# Altium schematic symbol library BioSens.SchLib: 19 symbols
Pins are listed as number, name and electrical type; pins without a type are passive.

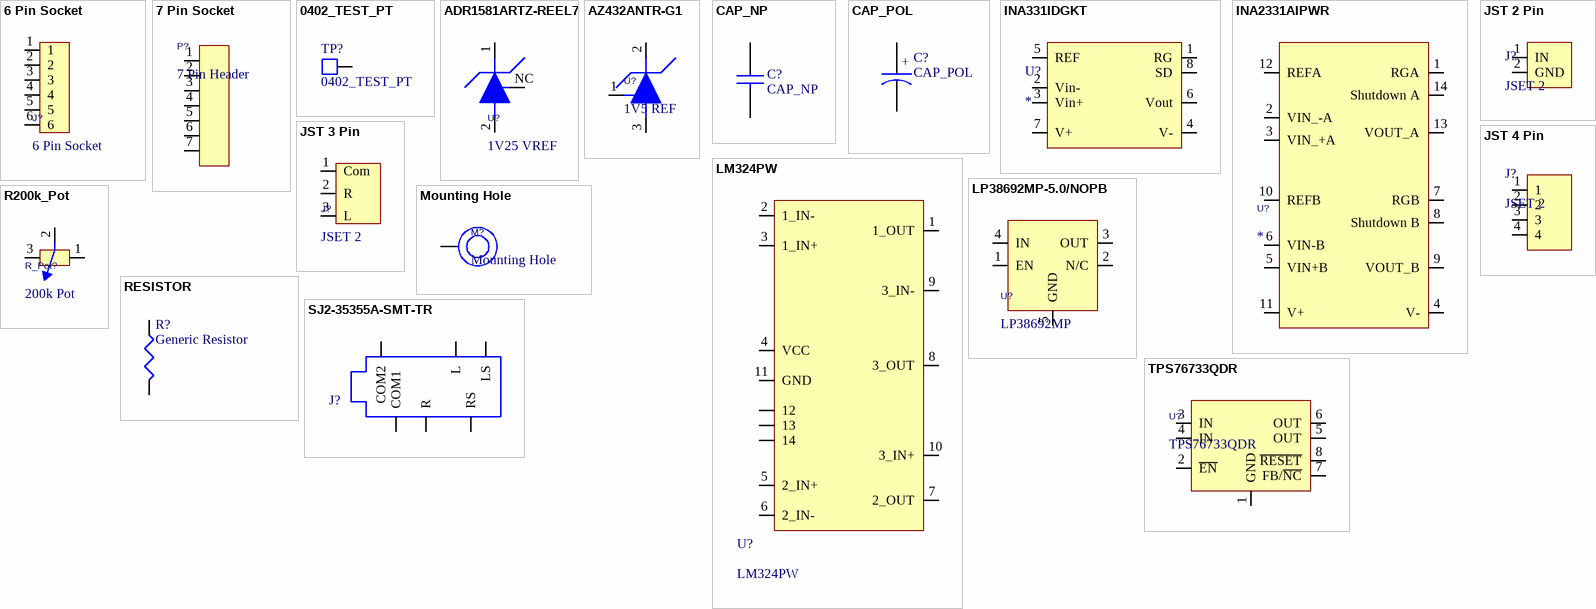
[diagram p0: symbols 6 Pin Socket to TPS76733QDR]

## 6 Pin Socket
designator J?
Headers for Signal to NRF
footprint 6 Pin Header (Biosignals output to NRF Digital IN)
pins: 1, 2, 3, 4, 5, 6

## 7 Pin Socket
designator P?, comment 7 Pin Header
KK 254 Wire-to-Board Header Single Row Vertical 7 Circuits PA Polyamide Nylon Tin (Sn) Plating; Manufacturer: Molex; Contact Resistance: 10mR; Max Current Rating: 4A; Voltage Rating: 250V; Number of Positions: 7; Gender: Male; Insulation Resistance: 50GR; Pitch: 2.54mm; Glow Wire Compliant: Non-compliant; Supplier 1: Digi-Key; Supplier Part Number 1: WM4005-ND; Manufacturer Part Number: 22-03-2071; RoHS: Yes; Category: Headers and Wire Housings; Stock 1: 11624; Pricing 1: 1=0.82000, 10=0.69600, 100=0.54110, 1000=0.42516, 5000=0.37362, 10000=0.34785 (USD); Mount: Through Hole; Contact Plating: Tin,Copper; Contact Material: Brass; Weight: 0.016932oz; Housing Color: White; Color: White; Housing Material: Nylon; Min Operating Temperature: 0°C; Max Operating Temperature: 75°C; Number of Rows: 1; Packaging: Bulk; Current Rating: 4A; Contact Gender: Male; Termination: Solder; Number of Contacts: 7; Max Voltage Rating (AC): 250V; Orientation: Straight; Voltage Rating (DC): 250V; Number of Circuits: 7; Series: KK® 4030; Contact Type: Male Pin; Length: 17.53mm; Height: 6.3mm; Contact Mating Length: 0.295inch; Depth: 2.34mm; Radiation Hardening: No; RoHS Compliant: Yes; REACH SVHC: Unknown; Halogen Free: Low Halogen; Lead Free: Lead Free; Flammability Rating: UL94 V-0; ComponentLink1URL: https://datasheet.ciiva.com/5147/0022032071-pcb-headers-158424-5147929.pdf?src-supplier=Mouser; ComponentLink1Description: https://datasheet.ciiva.com/5147/0022032071-pcb-headers-158424-5147929.pdf?src-supplier=Mouser; ComponentLink2URL: https://datasheet.ciiva.com/11747/0900766b80027332-11747589.pdf?src-supplier=RSComponents; ComponentLink2Description: https://datasheet.ciiva.com/11747/0900766b80027332-11747589.pdf?src-supplier=RSComponents; ComponentLink3URL: https://datasheet.ciiva.com/16656/0022032071-pcb-headers-16656194.pdf?src-supplier=Avnet+Europe; ComponentLink3Description: https://datasheet.ciiva.com/16656/0022032071-pcb-headers-16656194.pdf?src-supplier=Avnet+Europe; ComponentLink4URL: https://datasheet.ciiva.com/19461/878614-19461332.pdf?src-supplier=Jameco; ComponentLink4Description: https://datasheet.ciiva.com/19461/878614-19461332.pdf?src-supplier=Jameco; ComponentLink5URL: https://datasheet.ciiva.com/10087/0022032071-pcb-headers-10087718.pdf?src-supplier=Avnet; ComponentLink5Description: https://datasheet.ciiva.com/10087/0022032071-pcb-headers-10087718.pdf?src-supplier=Avnet; ComponentLink6URL: https://datasheet.ciiva.com/1433/1533907-1433547.pdf?src-supplier=Element14; ComponentLink6Description: https://datasheet.ciiva.com/1433/1533907-1433547.pdf?src-supplier=Element14; ComponentLink7URL: https://datasheet.ciiva.com/1433/1831754-1433548.pdf?src-supplier=Element14; ComponentLink7Description: https://datasheet.ciiva.com/1433/1831754-1433548.pdf?src-supplier=Element14; ComponentLink8URL: https://datasheet.ciiva.com/15217/getdatasheetpartid-176575-15217532.pdf?src-supplier=Verical; ComponentLink8Description: https://datasheet.ciiva.com/15217/getdatasheetpartid-176575-15217532.pdf?src-supplier=Verical
footprint 7 Pin Header (Biosignals output to NRF Digital IN)
pins: 1, 2, 3, 4, 5, 6, 7

## 0402_TEST_PT
designator TP?
footprint 0402_PAD
pins: 1

## ADR1581ARTZ-REEL7
designator U?, comment 1V25 VREF
V-Ref Precision 1.25V 10mA Automotive 3-Pin SOT-23 T/R; Manufacturer: Analog Devices; Manufacturer Part Number: ADR1581ARTZ-REEL7; Tolerance: 0.12%; Temperature Coefficient: 100ppm/°C; Cathode Current: 60uA; Reference Type: Shunt; Output Type: Fixed; Supplier 1: Digi-Key; Supplier Part Number 1: ADR1581ARTZ-REEL7CT-ND; RoHS: Yes; Category: Voltage References; Stock 1: 3651; Pricing 1: 1=1.91000, 10=1.71300, 25=1.61640, 100=1.37730, 250=1.29320, 500=1.13156, 1000=1.00650 (USD); Case/Package: SOT; Number of Pins: 3; Min Operating Temperature: -40°C; Max Operating Temperature: 85°C; Package Quantity: 3000; Output Voltage: 1.25V; Max Output Current: 10mA; Packaging: Tape and Reel; Min Output Voltage: 1.25V; Output Current: 10mA; Reference Voltage: 1.25V; Max Output Voltage: 1.25V; Max Input Current: 10mA; Series: -; Radiation Hardening: No; REACH SVHC: No SVHC; Lead Free: Contains Lead; RoHS Compliant: Yes; ComponentLink1URL: https://datasheet.ciiva.com/2005/adr1581-2005632.pdf?src-supplier=Digi-Key; ComponentLink1Description: https://datasheet.ciiva.com/2005/adr1581-2005632.pdf?src-supplier=Digi-Key; ComponentLink2URL: https://datasheet.ciiva.com/8130/adr1581-8130453.pdf?src-supplier=Avnet; ComponentLink2Description: https://datasheet.ciiva.com/8130/adr1581-8130453.pdf?src-supplier=Avnet; ComponentLink3URL: https://datasheet.ciiva.com/2005/adr1581-2005633.pdf?src-supplier=Digi-Key; ComponentLink3Description: https://datasheet.ciiva.com/2005/adr1581-2005633.pdf?src-supplier=Digi-Key; ComponentLink4URL: https://datasheet.ciiva.com/17218/adr1581-17218750.pdf?src-supplier=Avnet+Europe; ComponentLink4Description: https://datasheet.ciiva.com/17218/adr1581-17218750.pdf?src-supplier=Avnet+Europe; ComponentLink5URL: https://datasheet.ciiva.com/48695/001250741-da-01-en-ic-vref-s-adr1581artz-reel7-sot-23-3-adi-48695979.pdf?src-supplier=Conrad; ComponentLink5Description: https://datasheet.ciiva.com/48695/001250741-da-01-en-ic-vref-s-adr1581artz-reel7-sot-23-3-adi-48695979.pdf?src-supplier=Conrad
pins: 1, 2, NC

## AZ432ANTR-G1
designator U?, comment 1V5 REF
V-Ref Adjustable/Precision/Programmable 1.25V to 18V 100mA 3-Pin SOT-23 T/R; Manufacturer: Diodes; Manufacturer Part Number: AZ432ANTR-G1; Temperature Coefficient: 20ppm/°C; Cathode Current: 80uA; Tolerance: 0.5%; Reference Type: Shunt; Supplier 1: Digi-Key; Supplier Part Number 1: AZ432ANTR-G1DICT-ND; RoHS: Yes; Category: Voltage References; Stock 1: 92; Pricing 1: 1=0.49000, 10=0.37200, 25=0.33600, 100=0.23200, 250=0.19536, 500=0.15874, 1000=0.12211 (USD); Mount: Surface Mount; Case/Package: TO-236-3; Min Operating Temperature: -40°C; Max Operating Temperature: 125°C; Max Input Voltage: 18V; Max Output Current: 100mA; Packaging: Tape and Reel; Output Voltage: 18V; Min Output Voltage: 1.25V; Max Output Voltage: 18V; Output Current: 100mA; Output Type: Adjustable; Radiation Hardening: No; RoHS Compliant: Yes; ComponentLink1URL: http://www.diodes.com/datasheets/AZ432.pdf?src-supplier=Avnet; ComponentLink1Description: http://www.diodes.com/datasheets/AZ432.pdf?src-supplier=Avnet; ComponentLink2URL: https://www.diodes.com/assets/Datasheets/AZ432.pdf?src-supplier=Digi-Key; ComponentLink2Description: https://www.diodes.com/assets/Datasheets/AZ432.pdf?src-supplier=Digi-Key
footprint SOT95P245X110-3N (SOT23, 3-Leads, Body 2.90x2.45mm, Pitch 0.95mm, IPC Medium Density)
pins: 1 REF, 2 Cathode, 3 Anode

## CAP_NP
designator C?
Generic Cap for NC (No Polar) / ESR <30mOhm / ESL <1.5nH, / X7R or X5R; ComponentLink1Description: New link; ComponentLink1URL: *; Manufacturer: *; Manufacturer Part Number: *; Capacitance: *; Package: *; Dielectric: *
footprint CAP_0402_CER (Ceremic Cap 0402)
footprint CAP_0603_CER (Ceremic Cap 0603)
footprint CAP_0805_CER (Ceremic Cap 0805)
footprint CAP_1206_CER (Ceremic Cap 1206)
pins: 1, 2

## CAP_POL
designator C?
Tantalum CAP; Capacitance: *; Manufacturer Part Number: *; Dielectric: *; Package: *; Manufacturer: *
footprint CAP_0805_TANT (Tantalum Cap 0805)
footprint CAP_1206_TANT (Tantalum Cap 1206)
footprint CAP_2924_TANT (Tantalum Cap 2924)
footprint 0805_DIR
pins: 1, 2
text: +

## INA331IDGKT
designator U?
Low-Power, Single Supply, CMOS, Instrumentation Amplifier 8-VSSOP -55 to 125; Manufacturer: Texas Instruments; Manufacturer Part Number: INA331IDGKT; Bandwidth: 1kHz; Nominal Supply Current: 490uA; Common Mode Rejection Ratio: 90dB; Number of Channels: 1; Max Supply Voltage: 5.5V; Min Supply Voltage: 2.5V; Gain Bandwidth Product: 2MHz; Input Offset Voltage (Vos): 500uV; Operating Supply Current: 415uA; Input Bias Current: 10pA; Power Supply Rejection Ratio (PSRR): 86.02dB; Slew Rate: 5V/µs; Output Current per Channel: 48mA; Number of Elements: 3; Voltage Gain: 60dB; Input Resistance: 10000GR; Supplier 1: Arrow Electronics; Supplier Part Number 1: INA331IDGKT; RoHS: Yes; Category: Amplifiers - Op Amps, Buffer, Instrumentation; Stock 1: 50; Pricing 1: 1=3.16700, 10=2.87700, 25=2.70100, 250=2.11600 (USD); Case/Package: VSSOP; Number of Pins: 8; Weight: 0.000917oz; Min Operating Temperature: -55°C; Max Operating Temperature: 125°C; Packaging: Tape and Reel; Number of Circuits: 1; Quiescent Current: 415uA; Package Quantity: 250; -3db Bandwidth: 2MHz; Number of Amplifiers: 1; Termination: SMD/SMT; Length: 3mm; Width: 3mm; Height: 0.97mm; Radiation Hardening: No; Lead Free: Lead Free; RoHS Compliant: Yes; REACH SVHC: No SVHC; ComponentLink1URL: https://datasheet.ciiva.com/15128/getdatasheetpartid-292952-15128650.pdf?src-supplier=Verical; ComponentLink1Description: https://datasheet.ciiva.com/15128/getdatasheetpartid-292952-15128650.pdf?src-supplier=Verical; ComponentLink2URL: https://datasheet.ciiva.com/1486/1830999-1486266.pdf?src-supplier=Element14; ComponentLink2Description: https://datasheet.ciiva.com/1486/1830999-1486266.pdf?src-supplier=Element14; ComponentLink3URL: https://datasheet.ciiva.com/46396/1830999-46396812.pdf?src-supplier=Element14; ComponentLink3Description: https://datasheet.ciiva.com/46396/1830999-46396812.pdf?src-supplier=Element14; ComponentLink4URL: https://datasheet.ciiva.com/1799/ina2331-1799371.pdf?src-supplier=Digi-Key; ComponentLink4Description: https://datasheet.ciiva.com/1799/ina2331-1799371.pdf?src-supplier=Digi-Key; ComponentLink5URL: https://datasheet.ciiva.com/1799/ina2331-1799370.pdf?src-supplier=Digi-Key; ComponentLink5Description: https://datasheet.ciiva.com/1799/ina2331-1799370.pdf?src-supplier=Digi-Key; ComponentLink6URL: https://datasheet.ciiva.com/1799/ina2331-1799372.pdf?src-supplier=Digi-Key; ComponentLink6Description: https://datasheet.ciiva.com/1799/ina2331-1799372.pdf?src-supplier=Digi-Key; ComponentLink7URL: https://datasheet.ciiva.com/2976/ina331-2976175.pdf?src-supplier=Avnet; ComponentLink7Description: https://datasheet.ciiva.com/2976/ina331-2976175.pdf?src-supplier=Avnet; ComponentLink8URL: https://datasheet.ciiva.com/26257/sbos215c-26257679.pdf?src-supplier=Avnet+Europe; ComponentLink8Description: https://datasheet.ciiva.com/26257/sbos215c-26257679.pdf?src-supplier=Avnet+Europe; ComponentLink9URL: https://datasheet.ciiva.com/2976/ina331-2976176.pdf?src-supplier=Avnet; ComponentLink9Description: https://datasheet.ciiva.com/2976/ina331-2976176.pdf?src-supplier=Avnet; ComponentLink10URL: https://datasheet.ciiva.com/48712/001010630-da-01-en-ic-opamp-inst-r-ina331idgkt-vssop-8-tid-48712490.pdf?src-supplier=Conrad; ComponentLink10Description: https://datasheet.ciiva.com/48712/001010630-da-01-en-ic-opamp-inst-r-ina331idgkt-vssop-8-tid-48712490.pdf?src-supplier=Conrad
pins: 1 RG, 2 Vin-, 3 Vin+, 4 V-, 5 REF, 6 Vout, 7 V+, 8 SD

## INA2331AIPWR
designator U?
Low-power, single-supply, CMOS, instrumentation amplifier 14-TSSOP -55 to 125; Manufacturer: Texas Instruments; Manufacturer Part Number: INA2331AIPWR; Slew Rate: 5V/µs; -3db Bandwidth: 2MHz; Nominal Supply Current: 980uA; Common Mode Rejection Ratio: 80dB; Number of Channels: 2; Max Supply Voltage: 5.5V; Min Supply Voltage: 2.7V; Input Bias Current: 10pA; Input Offset Voltage (Vos): 1mV; Operating Supply Current: 415uA; Output Current per Channel: 48mA; Power Supply Rejection Ratio (PSRR): 86.02dB; Number of Elements: 6; Voltage Gain: 60dB; Input Resistance: 10000GR; Supplier 1: Digi-Key; Supplier Part Number 1: 296-44980-1-ND; RoHS: Yes; Category: Amplifiers - Op Amps, Buffer, Instrumentation; Stock 1: 163; Pricing 1: 1=3.12000, 10=2.79800, 25=2.64480, 100=2.29230, 250=2.17476, 500=1.95140, 1000=1.94075 (USD); Case/Package: TSSOP; Number of Pins: 14; Contact Plating: Gold; Min Operating Temperature: -55°C; Max Operating Temperature: 125°C; Package Quantity: 1; Packaging: Tape and Reel; Number of Circuits: 2; Quiescent Current: 415uA; Bandwidth: 2MHz; Series: -; Supply Current: 980uA; Gain Bandwidth Product: 2MHz; Radiation Hardening: No; Lead Free: Lead Free; RoHS Compliant: Yes; ComponentLink1URL: https://datasheet.ciiva.com/1814/ina2331-1814816.pdf?src-supplier=Digi-Key; ComponentLink1Description: https://datasheet.ciiva.com/1814/ina2331-1814816.pdf?src-supplier=Digi-Key; ComponentLink2URL: https://datasheet.ciiva.com/15128/getdatasheetpartid-248786-15128608.pdf?src-supplier=Verical; ComponentLink2Description: https://datasheet.ciiva.com/15128/getdatasheetpartid-248786-15128608.pdf?src-supplier=Verical; ComponentLink3URL: https://datasheet.ciiva.com/26852/ina2331aipwr-26852132.pdf?src-supplier=IIIC; ComponentLink3Description: https://datasheet.ciiva.com/26852/ina2331aipwr-26852132.pdf?src-supplier=IIIC; ComponentLink4URL: https://datasheet.ciiva.com/1814/ina2331-1814814.pdf?src-supplier=Digi-Key; ComponentLink4Description: https://datasheet.ciiva.com/1814/ina2331-1814814.pdf?src-supplier=Digi-Key; ComponentLink5URL: https://datasheet.ciiva.com/1814/ina2331-1814815.pdf?src-supplier=Digi-Key; ComponentLink5Description: https://datasheet.ciiva.com/1814/ina2331-1814815.pdf?src-supplier=Digi-Key; ComponentLink6URL: https://datasheet.ciiva.com/2978/ina331-2978080.pdf?src-supplier=Avnet; ComponentLink6Description: https://datasheet.ciiva.com/2978/ina331-2978080.pdf?src-supplier=Avnet
footprint TSOP65P640X120-14N (TSOP, 14-Leads, Body 5.00x4.40mm, Pitch 0.65mm, IPC Medium Density)
pins: 1 RGA, 2 VIN_-A, 3 VIN_+A, 4 V-, 5 VIN+B, 6 VIN-B, 7 RGB, 8 Shutdown B, 9 VOUT_B, 10 REFB, 11 V+, 12 REFA, 13 VOUT_A, 14 Shutdown A

## JST 2 Pin
designator J?, comment JSET 2
JST-XH2A; Manufacturer: JST; Number of Positions: 2; Connector Type: Male Pin; Pitch: 0.1inch; RoHS: Yes; Category: Headers and Wire Housings; Stock 1: 64007; Pricing 1: 1=0.25000, 10=0.20800, 100=0.15980, 500=0.13522, 1000=0.11064, 5000=0.09835, 10000=0.08913 (USD); Mount: Through Hole; Number of Rows: 1; Packaging: Bulk; Number of Contacts: 2; Contact Type: Male Pin; Lead Free: Lead Free; ComponentLink1URL: https://datasheet.ciiva.com/712/epa-f-712485.pdf?src-supplier=Digi-Key; ComponentLink1Description: https://datasheet.ciiva.com/712/epa-f-712485.pdf?src-supplier=Digi-Key
footprint JST_XH2A
pins: 1 IN "+", 2 GND

## JST 3 Pin
designator J?, comment JSET 2
JST-XH3A
footprint JST-XH3A
pins: 1 Com "+", 2 R "GND", 3 L

## JST 4 Pin
designator J?, comment JSET 2
JST_XH4A; Manufacturer: JST; Number of Positions: 4; Connector Type: Male Pin; Pitch: 0.1inch; RoHS: Yes; Category: Connectors; Stock 1: 11525; Pricing 1: 1=0.34000, 10=0.28700, 100=0.22360, 500=0.19162, 1000=0.15968, 5000=0.13687, 10000=0.12774 (USD); Mount: Through Hole; Number of Rows: 1; Contact Type: Male Pin; Number of Contacts: 4; Lead Free: Lead Free; ComponentLink1URL: https://datasheet.ciiva.com/712/epa-f-712564.pdf?src-supplier=Digi-Key; ComponentLink1Description: https://datasheet.ciiva.com/712/epa-f-712564.pdf?src-supplier=Digi-Key
footprint JST-XH4A
pins: 1 "SIG", 2 "NC", 3 "NC", 4 "NC"

## LM324PW
designator U?
Integrated Circuit Operational Amplifier LM324/TSSOP/LM324PW TEXAS INSTRUMENT RoHS TSSOP14; Manufacturer: Texas Instruments; Min Supply Voltage: 3V; Max Supply Voltage: 32V; Min Dual Supply Voltage: 1.5V; Max Dual Supply Voltage: 16V; Voltage Gain: 100dB; Slew Rate: 0.5V/µs; Common Mode Rejection Ratio: 65dB; Number of Circuits: 4; Gain Bandwidth Product: 1.2MHz; Input Bias Current: 250nA; Operating Supply Current: 1.4mA; Output Current per Channel: 60mA; Amplifier Type: GENERAL PURPOSE; Nominal Supply Current: 3mA; Output Current: 30mA; Input Offset Voltage (Vos): 7mV; Dual Supply Voltage: 9V; Supplier 1: Digi-Key; Supplier Part Number 1: 296-26098-5-ND; Manufacturer Part Number: LM324PW; RoHS: Yes; Category: Amplifiers - Op Amps, Buffer, Instrumentation; Stock 1: 4297; Pricing 1: 1=0.95000, 10=0.84700, 25=0.80440, 100=0.66070, 250=0.61760, 500=0.54580, 1000=0.47425 (USD); Mount: Surface Mount; Case/Package: TSSOP; Number of Pins: 14; Min Operating Temperature: 0°C; Max Operating Temperature: 70°C; Package Quantity: 90; Packaging: Rail/Tube; Operating Supply Voltage: 16V; Unity Gain Bandwidth Product: 1.2MHz; Number of Channels: 4; Number of Elements: 4; Supply Current: 3mA; Technology: BIPOLAR; Bandwidth: 1.2MHz; Series: -; Number of Amplifiers: 4; Length: 5mm; Width: 4.4mm; Height: 1.15mm; Radiation Hardening: No; RoHS Compliant: Yes; Lead Free: Lead Free; REACH SVHC: No SVHC; ComponentLink1URL: https://datasheet.ciiva.com/1796/lm324-1796594.pdf?src-supplier=Digi-Key; ComponentLink1Description: https://datasheet.ciiva.com/1796/lm324-1796594.pdf?src-supplier=Digi-Key; ComponentLink2URL: https://datasheet.ciiva.com/7709/1633632-7709818.pdf?src-supplier=Element14; ComponentLink2Description: https://datasheet.ciiva.com/7709/1633632-7709818.pdf?src-supplier=Element14
footprint TSOP65P640X120-14N (TSOP, 14-Leads, Body 5.00x4.40mm, Pitch 0.65mm, IPC Medium Density)
pins: 1 1_OUT, 2 1_IN-, 3 1_IN+, 4 VCC, 5 2_IN+, 6 2_IN-, 7 2_OUT, 8 3_OUT, 9 3_IN-, 10 3_IN+, 11 GND, 12, 13, 14

## LP38692MP-5.0/NOPB
designator U?, comment LP38692MP
1-A, 10-V, low-dropout voltage regulator with enable 5-SOT-223 -40 to 125; Manufacturer: Texas Instruments; Manufacturer Part Number: LP38692MP-5.0/NOPB; Min Supply Voltage: 2.7V; Max Input Voltage: 10V; Output Current: 1A; Dropout Voltage: 450mV; Output Voltage: 5V; Number of Outputs: 1; Polarity: Positive; Quiescent Current: 100uA; Output Voltage Accuracy: 2.5%; Output Type: Fixed; Supplier 1: Digi-Key; Supplier Part Number 1: LP38692MP-5.0/NOPBCT-ND; RoHS: Yes; Category: Voltage Regulators - Linear; Stock 1: 10037; Pricing 1: 1=2.12000, 10=1.90200, 25=1.79400, 100=1.52850, 250=1.43524, 500=1.25584 (USD); Mount: Surface Mount; Case/Package: SOT-223; Number of Pins: 5; Contact Plating: Tin,Matte; Min Operating Temperature: -40°C; Max Operating Temperature: 125°C; Min Input Voltage: 2.7V; Packaging: Tape and Reel; Nominal Output Voltage: 5V; Max Supply Voltage: 10V; Max Output Current: 1A; Termination: SMD/SMT; Accuracy: 2.5%; Package Quantity: 1000; Length: 6.5mm; Width: 3.56mm; Height: 1.6mm; Radiation Hardening: No; REACH SVHC: No SVHC; Lead Free: Lead Free; RoHS Compliant: Yes; ComponentLink1URL: https://datasheet.ciiva.com/15271/889lp38692-15271082.pdf?src-supplier=Arrow+Europe; ComponentLink1Description: https://datasheet.ciiva.com/15271/889lp38692-15271082.pdf?src-supplier=Arrow+Europe; ComponentLink2URL: https://datasheet.ciiva.com/14278/lp38692-14278796.pdf?src-supplier=Avnet; ComponentLink2Description: https://datasheet.ciiva.com/14278/lp38692-14278796.pdf?src-supplier=Avnet; ComponentLink3URL: https://datasheet.ciiva.com/6596/lp38690-6596184.pdf?src-supplier=Digi-Key; ComponentLink3Description: https://datasheet.ciiva.com/6596/lp38690-6596184.pdf?src-supplier=Digi-Key; ComponentLink4URL: https://datasheet.ciiva.com/6596/lp38690-6596185.pdf?src-supplier=Digi-Key; ComponentLink4Description: https://datasheet.ciiva.com/6596/lp38690-6596185.pdf?src-supplier=Digi-Key; ComponentLink5URL: https://datasheet.ciiva.com/6596/lp38690-6596186.pdf?src-supplier=Digi-Key; ComponentLink5Description: https://datasheet.ciiva.com/6596/lp38690-6596186.pdf?src-supplier=Digi-Key; ComponentLink6URL: https://datasheet.ciiva.com/22704/1854710-22704677.pdf?src-supplier=Element14; ComponentLink6Description: https://datasheet.ciiva.com/22704/1854710-22704677.pdf?src-supplier=Element14
pins: 1 EN, 2 N/C, 3 OUT, 4 IN, 5 GND

## Mounting Hole
designator M?
footprint Mounting Hole
pins: 1

## R200k_Pot
designator R_Pot?, comment 200k Pot
SMD Single-Turn Trimmer Potentiometers 1/4 SQ 200KOHMS 10% 0.5WATTS; Manufacturer: Bourns; Manufacturer Part Number: 3361P-1-204GLF; Resistance: 200kR; Power Rating: 500mW; Number of Turns: 1; Temperature Coefficient: 100ppm/°C; Supplier 1: Digi-Key; Supplier Part Number 1: 3361P-1-204GLFCT-ND; RoHS: Yes; Category: Variable Resistors and Potentiometers; Stock 1: 1039; Pricing 1: 1=1.26000, 10=1.11000, 25=0.99920, 50=0.96200, 100=0.92500, 250=0.86952 (USD); Mount: Surface Mount; Contact Plating: Tin,Matte; Min Operating Temperature: -55°C; Max Operating Temperature: 125°C; Tolerance: 10%; Packaging: Tape and Reel; Package Quantity: 750; Resistor Type: Cermet; Termination: Gull Wing; Max Power Dissipation: 500mW; Series: Trimpot® 3361 - Sealed; Technology: CERMET; Length: 6.71mm; Width: 0.264inch; Height: 0.192inch; Depth: 8.53mm; Radiation Hardening: No; Military Standard: Not; RoHS Compliant: Yes; ComponentLink1URL: https://datasheet.ciiva.com/2157/3361-2157333.pdf?src-supplier=Digi-Key; ComponentLink1Description: https://datasheet.ciiva.com/2157/3361-2157333.pdf?src-supplier=Digi-Key; ComponentLink2URL: https://datasheet.ciiva.com/2157/3361-2157335.pdf?src-supplier=Digi-Key; ComponentLink2Description: https://datasheet.ciiva.com/2157/3361-2157335.pdf?src-supplier=Digi-Key; ComponentLink3URL: https://datasheet.ciiva.com/2157/3361-2157334.pdf?src-supplier=Digi-Key; ComponentLink3Description: https://datasheet.ciiva.com/2157/3361-2157334.pdf?src-supplier=Digi-Key; ComponentLink4URL: https://datasheet.ciiva.com/15156/getdatasheetpartid-347912-15156998.pdf?src-supplier=Verical; ComponentLink4Description: https://datasheet.ciiva.com/15156/getdatasheetpartid-347912-15156998.pdf?src-supplier=Verical
footprint R_200k_Pot
pins: 1, 2, 3

## RESISTOR
designator R?, comment Generic Resistor
Manufacturer Part Number: *; Manufacturer: *; Resistance: *; Package: *
footprint R_0402
pins: 1, 2

## SJ2-35355A-SMT-TR
designator J?, comment EMG IN 3.5mm  (value not drawn)
3.5 mm, Stereo, Right Angle, Mid Mount (SMT), Audio Jack Connector; Manufacturer: CUI Devices; Manufacturer Part Number: SJ2-35355A-SMT-TR; Supplier 1: Digi-Key; Supplier Part Number 1: CP-SJ2-35355A-SMT-CT-ND; RoHS: Yes; Category: Audio / Video Connectors; Stock 1: 480; Pricing 1: 1=1.36000, 10=1.23500, 25=1.15920, 50=1.10880, 100=1.05840, 250=0.95760 (USD)
footprint CUI_SJ2-35355A-SMT-TR
pins: 1 L, 2 LS, 3 R, 4 COM2, 5 RS, 6 COM1

## TPS76733QDR
designator U?
IC REG LDO 3.3V 1A 8SOIC / LDO Regulator Pos 3.3V 1A 8-Pin SOIC T/R; Manufacturer: Texas Instruments; Number of Outputs: 1; Max Power Dissipation: 904mW; Dropout Voltage: 350mV; Max Input Voltage: 10V; Min Input Voltage: 2.7V; Input Bias Current: 85uA; Min Current Limit: 1.2A; Polarity: Positive; Quiescent Current: 80uA; Output Voltage Accuracy: 2%; Output Type: Fixed; Supplier 1: Arrow Electronics; Supplier Part Number 1: TPS76733QDR; Manufacturer Part Number: TPS76733QDR; RoHS: Yes; Category: Voltage Regulators - Linear; Case/Package: D; Number of Pins: 8; Min Operating Temperature: -40°C; Max Operating Temperature: 125°C; Package Quantity: 2500; Output Current: 1A; Output Voltage: 3.3V; Packaging: Tape and Reel; Max Output Current: 1A; Number of Regulators: 1; Power Dissipation: 904mW; Accuracy: 2%; Max Output Voltage: 3.3V; Min Output Voltage: 3.3V; Series: -; Lead Free: Lead Free; RoHS Compliant: Yes; ComponentLink1URL: https://datasheet.ciiva.com/26909/tps76733qdr-26909024.pdf?src-supplier=IIIC; ComponentLink1Description: https://datasheet.ciiva.com/26909/tps76733qdr-26909024.pdf?src-supplier=IIIC; ComponentLink2URL: https://datasheet.ciiva.com/2064/tps76701-2064275.pdf?src-supplier=Digi-Key; ComponentLink2Description: https://datasheet.ciiva.com/2064/tps76701-2064275.pdf?src-supplier=Digi-Key; ComponentLink3URL: https://datasheet.ciiva.com/14275/tps76701-14275656.pdf?src-supplier=Avnet; ComponentLink3Description: https://datasheet.ciiva.com/14275/tps76701-14275656.pdf?src-supplier=Avnet
footprint SOIC127P600X175-8N (SOIC, 8-Leads, Body 4.91x3.90mm, Pitch 1.27mm, IPC Medium Density)
pins: 1 GND, 2 ~{EN}, 3 IN, 4 IN, 5 OUT, 6 OUT, 7 FB/~{NC}, 8 ~{RESET}